# Altium integrated library B5B-XH-ALFSN.IntLib: 2 symbols
Pins are listed as number, name and electrical type; pins without a type are passive.

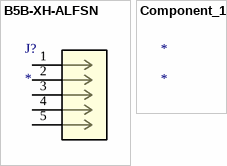
[diagram p0: symbols B5B-XH-ALFSN to Component_1]

## B5B-XH-ALFSN
designator J?
No Description Available; Mfr_Name: JST; RefDes: RefDes; Type: Type
footprint CONN_B5B-XH-ALFSN_JST
footprint CONN_B5B-XH-ALFSN_JST
pins: 1, 2, 3, 4, 5

## Component_1
designator *